# Altium footprint library LTC1446CS8.PcbLib: 3 footprints
Each footprint in its own frame and in the unit in brackets; x right, y up, seen from the top. Pads: shape width x height; smd on the part's side, far side on the other; paste and mask are expansions set on the pad; w line width, h text height; cw(c..) or ccw(c..) is an arc to the next point about the centre after c.
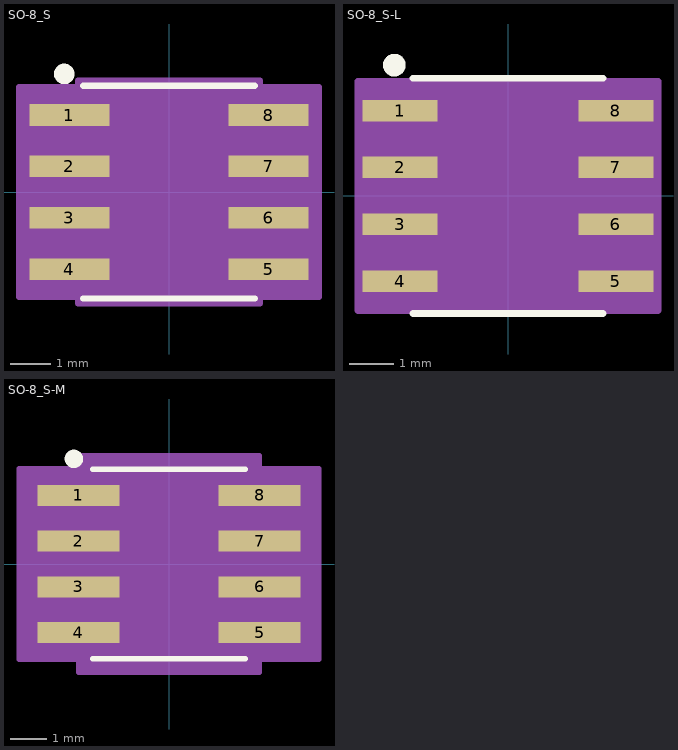
[diagram p0: the footprints below, top view; thin cyan lines are the x and y axes]

## SO-8_S [mil]
pads (8):
  rect 78x21 smd: 1(-97,75) 2(-97,25) 3(-97,-25) 4(-97,-75) 5(97,-75) 6(97,-25) 7(97,25) 8(97,75)
Top Overlay:
  circle w10: c-102,115 r5
  lines w6: -83.5,-103.5 83.5,-103.5 ; -83.5,103.5 83.5,103.5
Mechanical 13:
  lines w0: -12,98.5 ccw(c0,98.5) 12,98.5
Mechanical 15:
  region: -88.5,-102 -146,-102 -146,102 -88.5,102 -88.5,108.5 88.5,108.5 88.5,102 146,102 146,-102 88.5,-102 88.5,-108.5 -88.5,-108.5
  lines w6: -146,-102 -88.5,-102 -88.5,-108.5 88.5,-108.5 88.5,-102 146,-102 146,102 88.5,102 88.5,108.5 -88.5,108.5 -88.5,102 -146,102 -146,-102
3D body "SO-8_S.stp": height 69.01, standoff 0, extent -122,-98.5 122,98.5

## SO-8_S-L [mil]
pads (8):
  rect 66x19 smd: 1(-95,75) 2(-95,25) 3(-95,-25) 4(-95,-75) 5(95,-75) 6(95,-25) 7(95,25) 8(95,75)
Top Overlay:
  circle w10: c-100,115 r5
  lines w6: -83.5,-103.5 83.5,-103.5 ; -83.5,103.5 83.5,103.5
Mechanical 13:
  lines w0: -12,98.5 ccw(c0,98.5) 12,98.5
Mechanical 15:
  region: -82.5,-100.8 -132,-100.8 -132,100.8 -82.5,100.8 -82.5,102.5 82.5,102.5 82.5,100.8 132,100.8 132,-100.8 82.5,-100.8 82.5,-102.5 -82.5,-102.5
  lines w6: -132,-100.8 -82.5,-100.8 -82.5,-102.5 82.5,-102.5 82.5,-100.8 132,-100.8 132,100.8 82.5,100.8 82.5,102.5 -82.5,102.5 -82.5,100.8 -132,100.8 -132,-100.8
3D body "SO-8_S-L.stp": height 69.01, standoff 0, extent -122,-98.5 122,98.5

## SO-8_S-M [mil]
pads (8):
  rect 90x23 smd: 1(-99,75) 2(-99,25) 3(-99,-25) 4(-99,-75) 5(99,-75) 6(99,-25) 7(99,25) 8(99,75)
Top Overlay:
  circle w10: c-104,115 r5
  lines w6: -83.5,-103.5 83.5,-103.5 ; -83.5,103.5 83.5,103.5
Mechanical 13:
  lines w0: -12,98.5 ccw(c0,98.5) 12,98.5
Mechanical 15:
  region: -98.5,-104 -164,-104 -164,104 -98.5,104 -98.5,118.5 98.5,118.5 98.5,104 164,104 164,-104 98.5,-104 98.5,-118.5 -98.5,-118.5
  lines w6: -164,-104 -164,104 -98.5,104 -98.5,118.5 98.5,118.5 98.5,104 164,104 164,-104 98.5,-104 98.5,-118.5 -98.5,-118.5 -98.5,-104 -164,-104
3D body "SO-8_S-M.stp": height 69.01, standoff 0, extent -122,-98.5 122,98.5